# EAGLE library part FUTURA_V1.0_MOTOR_MOUNT (library Futura 1.0 motor mount template)
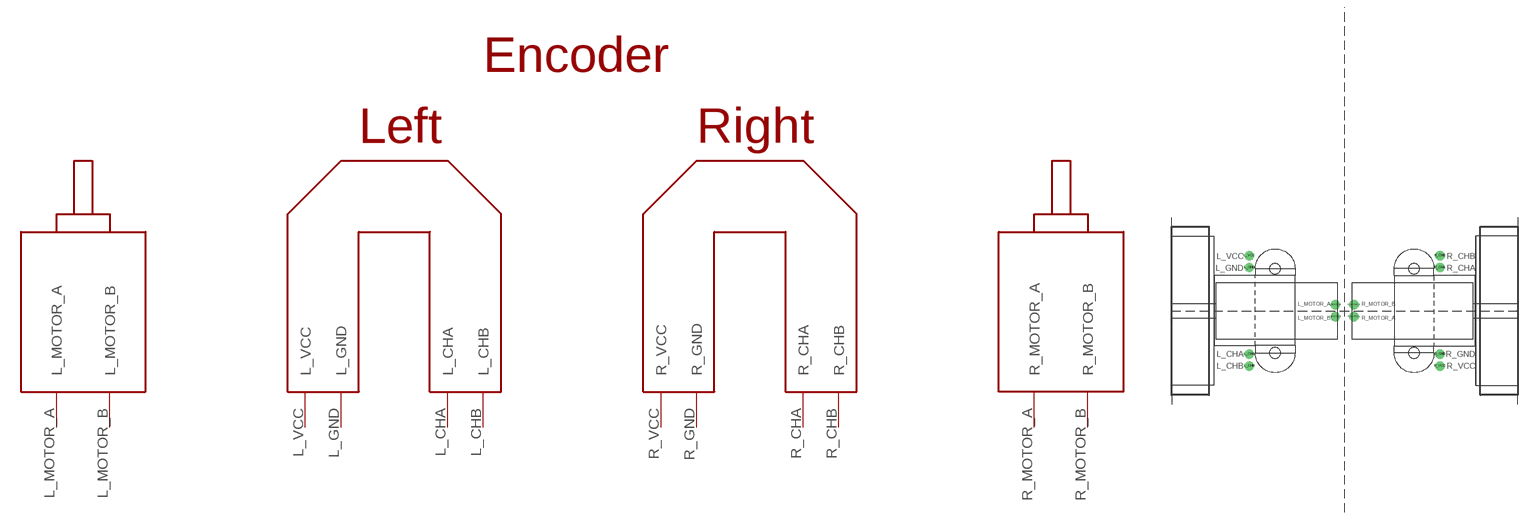
[diagram p0: symbol with the pads of FUTURA_V1.0_MOTOT_MOUNT; footprint FUTURA_V1.0_MOTOT_MOUNT]

Designator prefix -

## FUTURA_V1.0_MOTOR_MOUNT  [FUTURA_V1.0_MOTOT_MOUNT]
L_CHA  L_CHA
L_CHB  L_CHB
L_GND  L_GND
L_MOTOR_A  L_MOTOR_A
L_MOTOR_B  L_MOTOR_B
L_VCC  L_VCC
R_CHA  R_CHA
R_CHB  R_CHB
R_GND  R_GND
R_MOTOR_A  R_MOTOR_A
R_MOTOR_B  R_MOTOR_B
R_VCC  R_VCC

## Footprint FUTURA_V1.0_MOTOT_MOUNT (pad centres in mm)
drill 0.95 pad 2: L_CHA -20.375,26.73; L_CHB -20.375,24.19; L_GND -20.375,45.27; L_MOTOR_A -2,37.27; L_MOTOR_B -2,34.73; L_VCC -20.375,47.81; R_CHA 20.375,45.27; R_CHB 20.375,47.81; R_GND 20.375,26.73; R_MOTOR_A 2,34.73; R_MOTOR_B 2,37.27; R_VCC 20.375,24.19
hole 2.286 at 14.85,45
hole 2.286 at 14.85,27
hole 2.286 at -14.85,27
hole 2.286 at -14.85,45